# Altium footprint library SerialKM.PcbLib: 2 footprints
Each footprint in its own frame and in the unit in brackets; x right, y up, seen from the top. Pads: shape width x height; smd on the part's side, far side on the other; paste and mask are expansions set on the pad; w line width, h text height; cw(c..) or ccw(c..) is an arc to the next point about the centre after c.
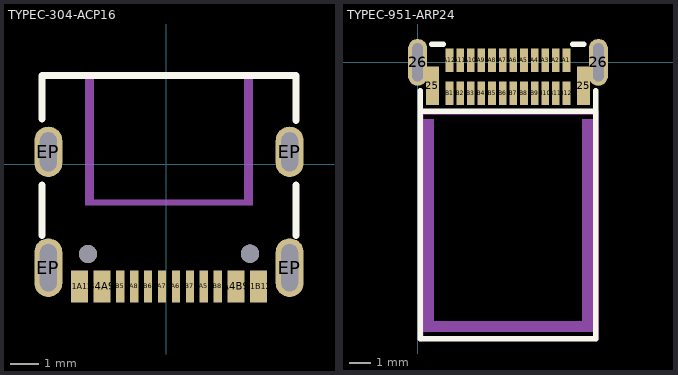
[diagram p0: the footprints below, top view; thin cyan lines are the x and y axes]

## TYPEC-304-ACP16 [mm]
pads (18):
  rect 0.6x1.15 smd paste+0 mask+0.051: A1B12(3.29,-4.378) A4B9(2.49,-4.378) B1A12(-3.11,-4.378) B4A9(-2.31,-4.378)
  rect 0.3x1.15 smd paste+0 mask+0.051: A5(1.34,-4.378) A6(0.34,-4.378) A7(-0.16,-4.378) A8(-1.16,-4.378) B5(-1.66,-4.378) B6(-0.66,-4.378) B7(0.84,-4.378) B8(1.84,-4.378)
  oval 1x2.1 hole 0.6 slot 1.7 at 90 deg paste-2539.97 mask+0.051: EP(-4.23,-3.708) EP(4.41,-3.708)
  oval 1x1.8 hole 0.6 slot 1.4 at 90 deg paste-2539.97 mask+0.051: EP(-4.23,0.442) EP(4.41,0.442)
  round 0.65 hole 0.65 unplated paste-2539.97: ""(-2.81,-3.218) ""(2.99,-3.208)
Top Overlay:
  lines w0.254: -4.46,-2.559 -4.46,-0.747 ; -4.46,1.622 -4.46,3.172 4.64,3.172 4.64,1.572 ; 4.64,-2.559 4.64,-1.978 4.64,-0.747
Top Paste:
  drawing of 16 lines, arcs and shapes, not listed
Mechanical 15:
  region: 3.09,3.032 3.09,-1.468 -2.91,-1.468 -2.91,3.032 -2.61,3.032 -2.61,-1.268 2.79,-1.268 2.79,3.032
  lines w0.2: -2.781,-3.11 ccw(c-2.8,-3.208) -2.777,-3.111 ; 2.999,-3.11 ccw(c2.98,-3.208) 3.003,-3.111
  lines w0.3: 3.331,-4.425 ccw(c3.302,-4.572) 3.337,-4.426
3D body "TYPEC-304-ACP16.STEP": height 3.23, standoff -1.13, extent -4.424,-4.603 4.576,3.037

## TYPEC-951-ARP24 [mm]
pads (28):
  rect 0.61x1.8 smd paste-100: 25(0.695,-1.1) 25(7.805,-1.1)
  oval 0.9x2.2 hole 0.5 slot 1.8 at 90 deg paste-2539.97 mask+0.05: 26(0,0) 26(8.5,0)
  rect 0.36x1.1 smd paste-100: A1(7,0.1) A2(6.5,0.1) A3(6,0.1) A4(5.5,0.1) A5(5,0.1) A6(4.5,0.1) A7(4,0.1) A8(3.5,0.1) A9(3,0.1) A10(2.5,0.1) A11(2,0.1) A12(1.5,0.1) B1(1.5,-1.45) B2(2,-1.45) B3(2.5,-1.45) B4(3,-1.45) B5(3.5,-1.45) B6(4,-1.45) B7(4.5,-1.45) B8(5,-1.45) B9(5.5,-1.45) B10(6,-1.45) B11(6.5,-1.45) B12(7,-1.45)
Top Overlay:
  lines w0.254: 0.125,-1.32 0.125,-2.3 ; 0.651,0.849 1.205,0.849 ; 7.295,0.849 7.806,0.849 ; 8.314,-13 0.125,-13 0.125,-2.3 ; 8.375,-13 8.375,-2.3 ; 8.375,-1.32 8.375,-2.3 ; 0.125,-2.3 8.375,-2.3
Top Paste:
  drawing of 26 lines, arcs and shapes, not listed
Keep-Out Layer:
  lines w0.254: 0.142,-13.007 0.142,-2.339 8.397,-2.339 8.397,-13.007
Mechanical 15:
  region: 0.75,-12.675 7.75,-12.675 7.75,-12.175 0.75,-12.175
  region: 8.25,-2.675 8.25,-12.675 7.75,-12.675 7.75,-2.675
  region: 0.25,-2.675 0.25,-12.675 0.75,-12.675 0.75,-2.675
3D body "TYPEC-951-ARP24.STEP": height 1.45, standoff -1.6, extent -0.1,-12.983 8.6,0.767